# Altium footprint library PcbLib.this.PcbLib: 3 footprints
Each footprint in its own frame and in the unit in brackets; x right, y up, seen from the top. Pads: shape width x height; smd on the part's side, far side on the other; paste and mask are expansions set on the pad; w line width, h text height; cw(c..) or ccw(c..) is an arc to the next point about the centre after c.
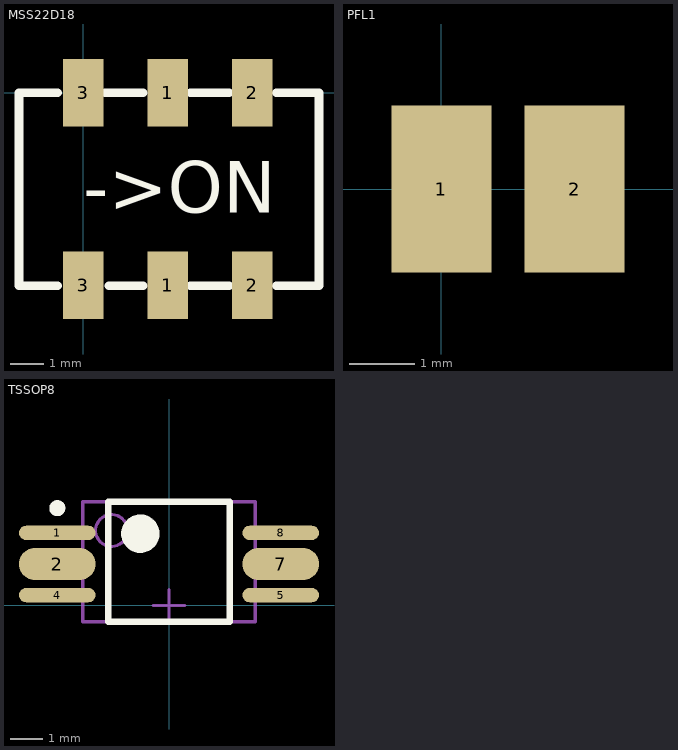
[diagram p0: the footprints below, top view; thin cyan lines are the x and y axes]

## MSS22D18 [mm] "a switch"
height 6
pads (6):
  rect 1.2x2 smd: 1(2.5,-5.7) 1(2.5,0) 2(5,-5.7) 2(5,0) 3(0,-5.7) 3(0,0)
Top Overlay:
  lines w0.254: -0.762,-5.715 -1.905,-5.715 -1.905,0 -0.762,0 ; 0.635,0 1.778,0 ; 0.762,-5.715 1.778,-5.715 ; 3.175,-5.715 4.318,-5.715 ; 3.175,0 4.318,0 ; 5.715,-5.715 6.985,-5.715 6.985,0 5.715,0
  text "->ON" at 0,-3.556 h1.52

## PFL1 [mil]
pads (2):
  rect 60x100 smd: 1(0,0) 2(80,0)

## TSSOP8 [mm]
height 2
pads (6):
  oval 2.4x0.45 smd: 1(-3.5,2.275) 4(-3.5,0.325) 5(3.5,0.325) 8(3.5,2.275)
  oval 2.4x1 smd: 2(-3.5,1.3) 7(3.5,1.3)
Top Overlay:
  circle w0.6: c-0.9,2.25 r0.3
  circle w0.25: c-3.5,3.05 r0.125
  lines w0.2: -1.9,-0.508 1.9,-0.508 1.9,3.25 -1.9,3.25 -1.9,-0.508
Mechanical 13:
  circle w0.1: c-1.8,2.35 r0.5
  lines w0.1: -2.7,-0.508 2.7,-0.508 2.7,3.25 -2.7,3.25 -2.7,-0.508
Mechanical 15:
  lines w0.1: -0.5,0 0.5,0 ; 0,-0.5 0,0.5
3D body: height 2, standoff 0, extent -2.7,-0.508 2.7,3.25